# Altium schematic symbol library RES_V_VAR.SchLib: 1 symbol
Pins are listed as number, name and electrical type; pins without a type are passive.

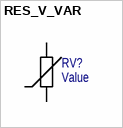
[diagram p0: symbol RES_V_VAR]

## RES_V_VAR
designator RV?  (value not drawn)
VARISTOR; Value: Value
pins: 1, 2